# Altium footprint library ESIMA_E_Meter_CPU.PcbLib: 24 footprints (part 1 of 2)
Each footprint in its own frame and in the unit in brackets; x right, y up, seen from the top. Pads: shape width x height; smd on the part's side, far side on the other; paste and mask are expansions set on the pad; w line width, h text height; cw(c..) or ccw(c..) is an arc to the next point about the centre after c.
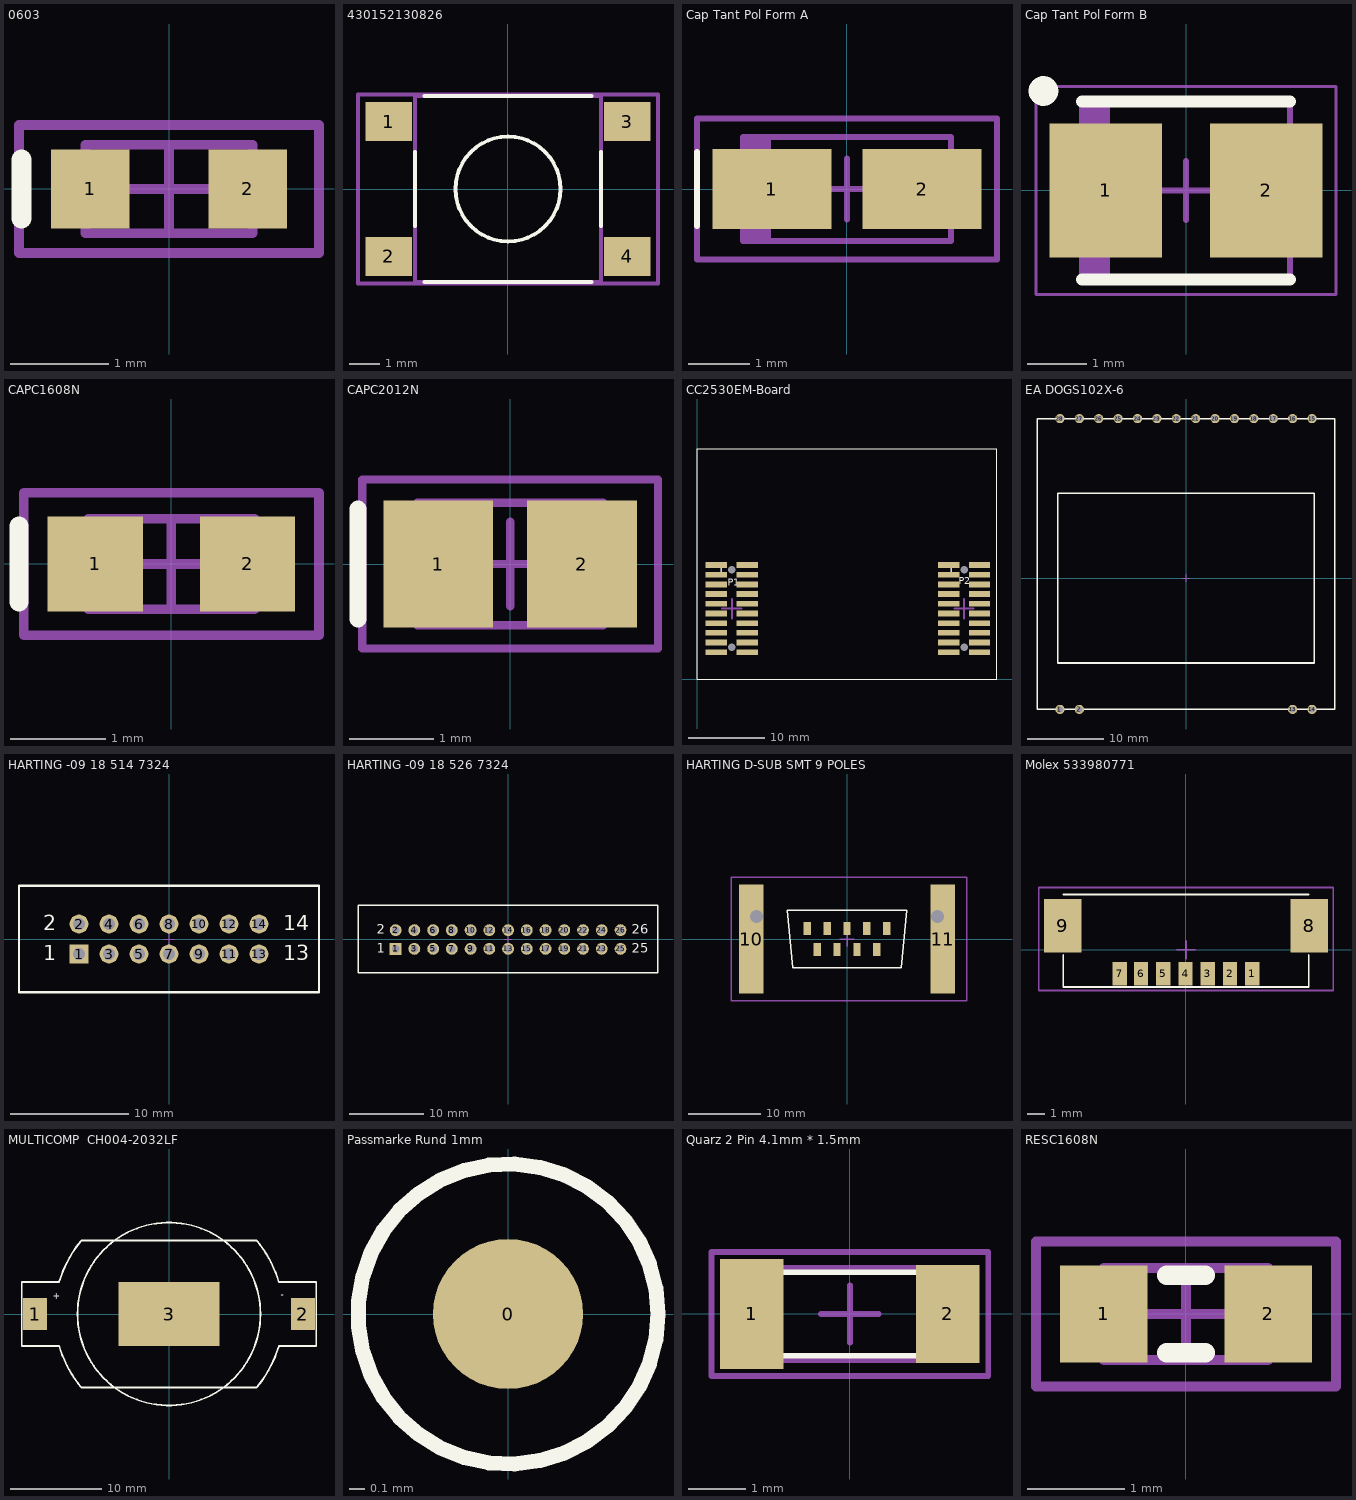
[diagram p0: the footprints below, top view; thin cyan lines are the x and y axes]

## 0603 [mm] "Chip LED, 2-Leads, Body 1.6x0.8mm, IPC Medium Density"
height 0.68
pads (2):
  rect 0.8x0.8 smd: 1(-0.8,0) 2(0.8,0)
Top Overlay:
  lines w0.2: -1.5,-0.3 -1.5,0.3
Mechanical 13:
  lines w0.1: -0.85,-0.45 0.85,-0.45 0.85,0.45 -0.85,0.45 -0.85,-0.45
Mechanical 15:
  lines w0.1: -0.45,0 0.45,0 ; 0,-0.45 0,0.45 ; -1.525,-0.65 1.525,-0.65 1.525,0.65 -1.525,0.65 -1.525,-0.65
3D body: height 0.7, standoff 0, extent -0.8,-0.4 0.8,0.4

## 430152130826 [mm] "6*6mm vertical type, SMD, height 13.0mm, white actuator, 260gf, T&R"
height 13
pads (4):
  rect 1.55x1.3 smd: 1(-3.975,2.25) 2(-3.975,-2.25) 3(3.975,2.25) 4(3.975,-2.25)
Top Overlay:
  circle w0.127: c0,0 r1.75
  lines w0.127: -3.1,-1.24 -3.1,1.24 ; -2.79,-3.1 2.79,-3.1 ; -2.79,3.1 2.79,3.1 ; 3.1,-1.24 3.1,1.24
Mechanical 13:
  lines w0.127: -3.1,-3.1 -3.1,3.1 3.1,3.1 3.1,-3.1 -3.1,-3.1
Mechanical 15:
  lines w0.127: -5,-3.15 5,-3.15 5,3.15 -5,3.15 -5,-3.15
3D body: height 12.99, standoff -0.01, extent -4.5,-3.1 4.5,3.1

## Cap Tant Pol Form A [mm] "Tantalum Solid Electrolytic Chip Capacitors  with Conductive Polymer Electrode"
height 1.8
pads (2):
  rect 1.95x1.3 smd: 1(-1.225,0) 2(1.225,0)
Top Overlay:
  lines w0.1: -2.45,-0.6 -2.45,0.6
Mechanical 13:
  rectangle: -1.7,-0.85 -1.243,0.85
  lines w0.1: -1.7,-0.85 1.7,-0.85 1.7,0.85 -1.7,0.85 -1.7,-0.85
Mechanical 15:
  lines w0.1: -0.5,0 0.5,0 ; 0,-0.5 0,0.5 ; -2.45,-1.15 2.45,-1.15 2.45,1.15 -2.45,1.15 -2.45,-1.15
3D body: height 1.8, standoff 0, extent -1.7,-0.85 1.7,0.85

## Cap Tant Pol Form B [mm] "Cap Tantal 6.0mm*3.5*mm*2.8mm"
height 2.1
pads (2):
  rect 1.9x2.25 smd: 1(-1.35,0) 2(1.35,0)
Top Overlay:
  circle w0.25: c-2.4,1.675 r0.125
  lines w0.2: -1.75,-1.5 1.75,-1.5 ; -1.75,1.5 1.75,1.5
Mechanical 13:
  rectangle: -1.75,-1.5 -1.279,1.5
  lines w0.1: -1.75,-1.5 1.75,-1.5 1.75,1.5 -1.75,1.5 -1.75,-1.5
Mechanical 15:
  lines w0.05: -2.525,-1.75 2.525,-1.75 2.525,1.75 -2.525,1.75 -2.525,-1.75
  lines w0.1: -0.5,0 0.5,0 ; 0,-0.5 0,0.5
3D body: height 2.1, standoff 0, extent -1.75,-1.5 1.75,1.5

## CAPC1608N [mm] "Chip Capacitor, Body 1.6x0.8mm, IPC Medium Density"
height 0.85
pads (2):
  rect 1x1 smd: 1(-0.8,0) 2(0.8,0)
Top Overlay:
  lines w0.2: -1.6,-0.4 -1.6,0.4
Mechanical 13:
  lines w0.1: -0.875,-0.475 0.875,-0.475 0.875,0.475 -0.875,0.475 -0.875,-0.475
Mechanical 15:
  lines w0.1: -0.475,0 0.475,0 ; 0,-0.475 0,0.475 ; -1.55,-0.75 1.55,-0.75 1.55,0.75 -1.55,0.75 -1.55,-0.75
3D body: height 0.85, standoff 0, extent -0.875,-0.475 0.875,0.475

## CAPC2012N [mm] "Chip Capacitor, Body 2.0x1.3mm, IPC Medium Density"
height 1.1
pads (2):
  rect 1.3x1.5 smd: 1(-0.85,0) 2(0.85,0)
Top Overlay:
  lines w0.2: -1.8,-0.65 -1.8,0.65
Mechanical 13:
  lines w0.1: -1.1,-0.725 1.1,-0.725 1.1,0.725 -1.1,0.725 -1.1,-0.725
Mechanical 15:
  lines w0.1: -0.5,0 0.5,0 ; 0,-0.5 0,0.5 ; -1.75,-1 1.75,-1 1.75,1 -1.75,1 -1.75,-1
3D body: height 1.1, standoff 0, extent -1.1,-0.725 1.1,0.725

## CC2530EM-Board [mm] "CC2530EM Eva Board"
height 6
pads (44):
  rect 2.8x0.75 smd paste+0 mask+0: x1_1(2.542,14.986) x1_2(6.602,14.986) x1_3(2.542,13.716) x1_4(6.602,13.716) x1_5(2.542,12.446) x1_6(6.602,12.446) x1_7(2.542,11.176) x1_8(6.602,11.176) x1_9(2.542,9.906) x1_10(6.602,9.906) x1_11(2.542,8.636) x1_12(6.602,8.636) x1_13(2.542,7.366) x1_14(6.602,7.366) x1_15(2.542,6.096) x1_16(6.602,6.096) x1_17(2.542,4.826) x1_18(6.602,4.826) x1_19(2.542,3.556) x1_20(6.602,3.556) x2_1(33.022,14.986) x2_2(37.082,14.986) x2_3(33.022,13.716) x2_4(37.082,13.716) x2_5(33.022,12.446) x2_6(37.082,12.446) x2_7(33.022,11.176) x2_8(37.082,11.176) x2_9(33.022,9.906) x2_10(37.082,9.906) x2_11(33.022,8.636) x2_12(37.082,8.636) x2_13(33.022,7.366) x2_14(37.082,7.366) x2_15(33.022,6.096) x2_16(37.082,6.096) x2_17(33.022,4.826) x2_18(37.082,4.826) x2_19(33.022,3.556) x2_20(37.082,3.556)
  round 0.5 hole 1 unplated paste-0.03: ""(4.572,4.191) ""(4.572,14.351) ""(35.052,4.191) ""(35.052,14.351)
Top Overlay:
  lines w0.025: 0,0 39.37,0 39.37,30.251 0,30.251 0,0
  text "1" at 2.575,13.725 h1.33
  text "1" at 32.8,13.8 h1.33
  text "P1" at 4.025,12.3 h0.89
  text "P2" at 34.35,12.475 h0.89
Mechanical 15:
  lines w0.254: 3.302,9.271 5.842,9.271 ; 4.572,8.001 4.572,10.541 ; 33.782,9.271 36.322,9.271 ; 35.052,8.001 35.052,10.541
3D body: height 6.5, standoff 5.5, extent -0.013,-0.013 39.383,30.264
3D body: height 6.06, standoff 0.09, extent 32.104,2.9 37.946,15.6
3D body: height 6.06, standoff 0.09, extent 1.658,2.95 7.5,15.65

## EA DOGS102X-6 [mm] "LCD Graphic Display 102*64 Dots SPI-Interface"
height 9.1
pads (18):
  round 1.2 hole 0.8: 1(-16.51,-17.2) 2(-13.97,-17.2) 13(13.97,-17.2) 14(16.51,-17.2) 15(16.51,20.9) 16(13.97,20.9) 17(11.43,20.9) 18(8.89,20.9) 19(6.35,20.9) 20(3.81,20.9) 21(1.27,20.9) 22(-1.27,20.9) 23(-3.81,20.9) 24(-6.35,20.9) 25(-8.89,20.9) 26(-11.43,20.9) 27(-13.97,20.9) 28(-16.51,20.9)
Top Overlay:
  lines w0.2: -19.5,-17.2 -19.5,20.9 19.5,20.9 19.5,-17.2 -19.5,-17.2 ; -16.8,-11.12 16.8,-11.12 16.8,11.12 -16.8,11.12 -16.8,-11.12
Mechanical 15:
  lines w0.1: -0.5,0 0.5,0 ; 0,-0.5 0,0.5
3D body: height 9.1, standoff 7, extent -19.5,-17.2 19.5,21
3D body: height 9, standoff 0, extent -14.193,-17.475 -13.695,-16.975
3D body: height 9, standoff 0, extent -16.733,-17.475 -16.235,-16.975
3D body: height 9, standoff 0, extent 13.747,-17.475 14.245,-16.975
3D body: height 9, standoff 0, extent 16.287,-17.475 16.785,-16.975
3D body: height 9, standoff 0, extent -16.733,20.625 -16.235,21.125
3D body: height 9, standoff 0, extent -14.193,20.625 -13.695,21.125
3D body: height 9, standoff 0, extent -11.653,20.625 -11.155,21.125
3D body: height 9, standoff 0, extent -9.113,20.625 -8.615,21.125
3D body: height 9, standoff 0, extent -6.573,20.625 -6.075,21.125
3D body: height 9, standoff 0, extent -4.033,20.625 -3.535,21.125
3D body: height 9, standoff 0, extent -1.493,20.625 -0.995,21.125
3D body: height 9, standoff 0, extent 1.047,20.625 1.545,21.125
3D body: height 9, standoff 0, extent 3.587,20.625 4.085,21.125
3D body: height 9, standoff 0, extent 6.127,20.625 6.625,21.125
3D body: height 9, standoff 0, extent 8.667,20.625 9.165,21.125
3D body: height 9, standoff 0, extent 11.207,20.625 11.705,21.125
3D body: height 9, standoff 0, extent 13.747,20.625 14.245,21.125
3D body: height 9, standoff 0, extent 16.287,20.625 16.785,21.125

## HARTING -09 18 514 7324 [mm] "HARTING - 09 18 514 7324"
height 9.4
pads (14):
  rect 1.6x1.6 hole 1: 1(-7.62,-1.27)
  round 1.6 hole 1: 2(-7.62,1.27) 3(-5.08,-1.27) 4(-5.08,1.27) 5(-2.54,-1.27) 6(-2.54,1.27) 7(0,-1.27) 8(0,1.27) 9(2.54,-1.27) 10(2.54,1.27) 11(5.08,-1.27) 12(5.08,1.27) 13(7.62,-1.27) 14(7.62,1.27)
Top Overlay:
  lines w0.2: -12.7,-4.5 -12.7,4.5 12.7,4.5 12.7,-4.5 -12.7,-4.5
  text "2" at -10.668,0.762 h1.27
  text "1" at -10.668,-1.778 h1.27
  text "14" at 9.652,0.762 h1.27
  text "13" at 9.652,-1.778 h1.27
Mechanical 15:
  lines w0.1: -0.5,0 0.5,0 ; 0,-0.5 0,0.5
3D body: height 9.1, standoff -3.55, extent -12.8,-4.5 12.6,4.7

## HARTING -09 18 526 7324 [mm] "HARTING -09 18 526 7324"
height 9.4
pads (26):
  rect 1.6x1.6 hole 1: 1(-15.24,-1.27)
  round 1.6 hole 1: 2(-15.24,1.27) 3(-12.7,-1.27) 4(-12.7,1.27) 5(-10.16,-1.27) 6(-10.16,1.27) 7(-7.62,-1.27) 8(-7.62,1.27) 9(-5.08,-1.27) 10(-5.08,1.27) 11(-2.54,-1.27) 12(-2.54,1.27) 13(0,-1.27) 14(0,1.27) 15(2.54,-1.27) 16(2.54,1.27) 17(5.08,-1.27) 18(5.08,1.27) 19(7.62,-1.27) 20(7.62,1.27) 21(10.16,-1.27) 22(10.16,1.27) 23(12.7,-1.27) 24(12.7,1.27) 25(15.24,-1.27) 26(15.24,1.27)
Top Overlay:
  lines w0.2: -20.34,4.63 20.3,4.63 ; -20.32,4.63 -20.32,-4.5 20.26,-4.5 ; 20.32,-4.5 20.32,4.63
  text "2" at -17.78,0.762 h1.27
  text "1" at -17.78,-1.778 h1.27
  text "25" at 16.764,-1.778 h1.27
  text "26" at 16.764,0.762 h1.27
Mechanical 15:
  lines w0.1: -0.5,0 0.5,0 ; 0,-0.5 0,0.5
3D body: height 9.4, standoff -3.25, extent -20.24,-4.47 20.4,4.73

## HARTING D-SUB SMT 9 POLES [mm]
height 12.55
pads (13):
  rect 1x1.8 smd: 1(5.48,1.42) 2(2.74,1.42) 3(0,1.42) 4(-2.74,1.42) 5(-5.48,1.42) 6(4.11,-1.42) 7(1.37,-1.42) 8(-1.37,-1.42) 9(-4.11,-1.42)
  rect 3.4x15 smd: 10(-13.2,0) 11(13.2,0)
  rect 0x0 hole 1.8: 10(-12.5,3.1) 11(12.5,3.1)
Top Overlay:
  lines w0.2: -8.25,3.75 -8.25,4 ; -8.25,4 -7.5,-4 7.5,-4 8.25,4 -8.25,4 ; -8.25,4 -8.25,4
Mechanical 15:
  lines w0.2: -1,0 1,0 ; 0,-1 0,1 ; -16,-8.5 16.5,-8.5 16.5,8.5 -16,8.5 -16,-8.5
3D body: height 6.35, standoff 0, extent -15.75,-6.25 15.75,6.25
3D body: height 12.55, standoff 6.35, extent -15,-2.495 -10.02,2.495
3D body: height 12.55, standoff 6.35, extent 10,-2.495 14.98,2.495
3D body: height 12.55, standoff 6.35, extent -8.25,-4 8.25,4

## Molex 533980771 [mm] "MOLEX - 53398-0771 - STIFTLEISTE, SMT, 1.25MM, 7POL"
height 4.7
pads (9):
  rect 0.8x1.3 smd: 1(3.725,-1.35) 2(2.475,-1.35) 3(1.225,-1.35) 4(-0.025,-1.35) 5(-1.275,-1.35) 6(-2.525,-1.35) 7(-3.725,-1.35)
  rect 2.1x3 smd: 8(6.925,1.35) 9(-6.925,1.35)
Top Overlay:
  lines w0.1: -6.9,-0.3 -6.9,-2.1 6.9,-2.1 6.9,-0.3 ; -6.9,3.1 6.9,3.1
Mechanical 15:
  lines w0.1: -0.5,0 0.5,0 ; 0,-0.5 0,0.5 ; -8.275,-2.3 -8.275,3.5 8.275,3.5 8.275,-2.3 -8.275,-2.3
3D body: height 4.7, standoff 0, extent -6.95,-1.75 6.95,2.45

## MULTICOMP  CH004-2032LF [mm] "MULTICOMP  CH004-2032LF  BATTERIEHALTER, SMT, 20MM"
height 5.4
pads (3):
  rect 2.6x3.5 smd: 1(-14.65,0) 2(14.65,0)
  rect 11x7 smd: 3(0,0)
Top Overlay:
  lines w0.2: -12,3.5 -16.1,3.5 -16.1,0 -16.1,-3.5 -12,-3.5 ccw(c0,0) -9.603,-8.002 ; -11.958,3.64 cw(c0,0) -9.603,8.002 ; -9.603,-8.05 9.603,-8.05 ; -9.603,8.05 9.603,8.05 ; 9.603,-8.002 ccw(c0,0) 11.958,-3.64 ; 9.603,8.002 cw(c0,0) 12,3.5 16.1,3.5 16.1,0 16.1,-3.5 12,-3.5 ; -10,0 ccw(c0,0) 10,0 ccw(c0,0) -10,0
  text "-" at 12.2,1.8 h0.7
  text "+" at -12.7,1.6 h0.7
3D body: height 3.15, standoff 0, extent -16.052,-3.602 16.052,3.602
3D body: height 5.4, standoff 0, extent -10.013,-10.013 10.013,10.013

## Passmarke Rund 1mm [mm] "Passmarke Zollner Rund 1mm 3mm Freistellung"
pads (1):
  round 1 smd paste+0 mask+0.5: 0(0,0)
Top Overlay:
  circle w0.1: c0,0 r1

## Quarz 2 Pin 4.1mm * 1.5mm [mm] "Chip Resistor, 2-Leads, Body 4,1x1,5mm, IPC Medium Density"
height 0.6
pads (2):
  rect 1.1x1.9 smd: 1(-1.7,0)
  rect 1.1x1.7 smd: 2(1.7,0)
Top Overlay:
  lines w0.1: -1.3,-0.725 1.3,-0.725 ; -1.3,0.725 1.3,0.725
Mechanical 13:
  lines w0.1: -2.1,-0.8 -2.1,0.8 2.1,0.8 2.1,-0.8 -2.1,-0.8
Mechanical 15:
  lines w0.1: -0.5,0 0.5,0 ; 0,-0.5 0,0.5 ; -2.4,-1.075 -2.4,1.075 2.4,1.075 2.4,-1.075 -2.4,-1.075
3D body: height 0.6, standoff 0, extent -2.1,-0.8 2.1,0.8

## RESC1608N [mm] "Chip Resistor, Body 1.6x0.8mm, IPC Medium Density"
height 0.6
pads (2):
  rect 0.9x1 smd: 1(-0.85,0) 2(0.85,0)
Top Overlay:
  lines w0.2: -0.2,-0.4 0.2,-0.4 ; -0.2,0.4 0.2,0.4
Mechanical 13:
  lines w0.1: -0.85,-0.475 -0.85,0.475 0.85,0.475 0.85,-0.475 -0.85,-0.475
Mechanical 15:
  lines w0.1: -0.475,0 0.475,0 ; 0,-0.475 0,0.475 ; -1.55,-0.75 -1.55,0.75 1.55,0.75 1.55,-0.75 -1.55,-0.75
3D body: height 0.6, standoff 0, extent -0.85,-0.475 0.85,0.475